# Altium schematic symbol library General Components.SchLib: 18 symbols
Pins are listed as number, name and electrical type; pins without a type are passive.

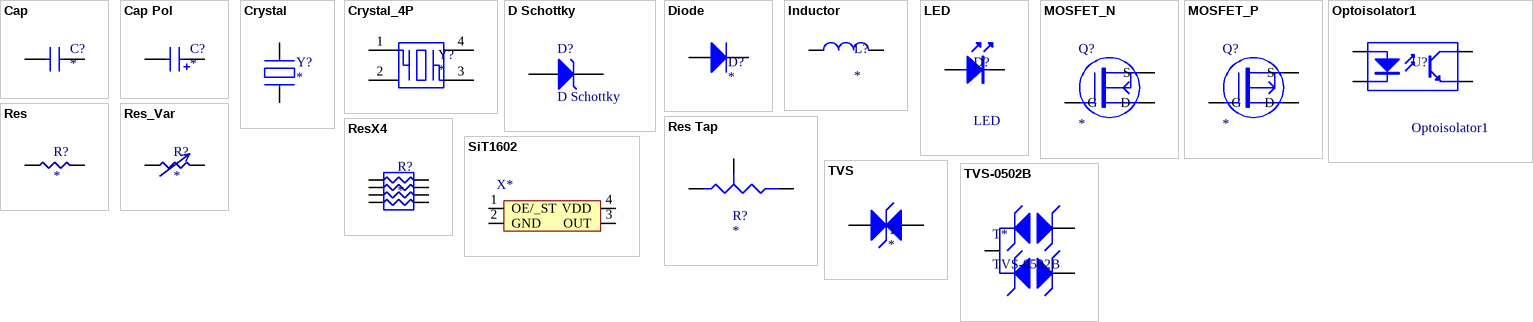
[diagram p0: symbols Cap to TVS-0502B]

## Cap
designator C?
Nonpolarized Capacitor (Surface Mount)
footprint 0603(1608)-C-IPC (Chip Capacitor, 2-Leads, Body 1.60x0.80mm, IPC Medium Density)
footprint 0805(2012)-C-IPC (Chip Capacitor, 2-Leads, Body 2.00x1.25mm, IPC Medium Density)
footprint 1206(3216)-C-IPC (Chip Capacitor, 2-Leads, Body 3.20x1.60mm, IPC Medium Density)
footprint 1210(3225)-C-IPC (Chip Capacitor, 2-Leads, Body 3.20x2.50mm, IPC Medium Density)
footprint 1812(4532)-C-IPC (Chip Capacitor, 2-Leads, Body 4.50x3.20mm, IPC Medium Density)
footprint 2225(5764)-C-IPC (Chip Capacitor, 2-Leads, Body 5.72x6.35mm, IPC Medium Density)
pins: 1, 2
2 alternate drawings of the same symbol

## Cap Pol
designator C?
Polarized Capacitor (Surface Mount)
footprint TanCap-A(3216)-C-IPC (Molded Capacitor, 2-Leads, Body 3.20x1.60mm, IPC Medium Density)
footprint TanCap-B(3528)-C-IPC (Molded Capacitor, 2-Leads, Body 3.50x2.80mm, IPC Medium Density)
footprint TanCap-C(6032)-C-IPC (Molded Capacitor, 2-Leads, Body 6.00x3.20mm, IPC Medium Density)
footprint TanCap-D(7343)-C-IPC (Molded Capacitor, 2-Leads, Body 7.30x4.30mm, IPC Medium Density)
footprint TanCap-E(7343)-C-IPC (Molded Capacitor, 2-Leads, Body 7.30x4.30mm, IPC Medium Density)
footprint CAP-Al-6.3x5.4 (Aluminium Electrolytic Capacitor, 2-Leads, Body 6.3x5.4mm, SMD)
footprint CAP-Al-10.5x10 (Aluminium Electrolytic Capacitor, 2-Leads, Body 10.5x10mm, SMD)
pins: 1, 2
2 alternate drawings of the same symbol

## Crystal
designator Y?
Passive Crystal, SMD
footprint XTAL-5032 (Passive Crystal, 2-Leads, Body 5.0x3.2mm, SMD)
footprint XTAL-2012 (Passive Crystal, 2-Leads, Body 2.0x1.2mm, SMD)
footprint XTAL-3215 (Passive Crystal, 2-Leads, Body 3.2x1.5mm, SMD)
pins: 1, 2
2 alternate drawings of the same symbol

## Crystal_4P
designator Y?
Passive Crystal, SMD
footprint XTAL-3225-4P (Passive Crystal, 4-Leads, Body 3.2x2.5mm, SMD)
pins: 1, 2, 3, 4
2 alternate drawings of the same symbol

## D Schottky
designator D?
Schottky Diode
footprint SMA-D-IPC (Molded Diode, 2-Leads, Body 4.15x2.60mm, IPC Medium Density)
footprint SMB-D-IPC (Molded Diode, 2-Leads, Body 4.31x3.62mm, IPC Medium Density)
footprint SMC-D-IPC (Molded Diode, 2-Leads, Body 6.85x5.90mm, IPC Medium Density)
footprint SOD-123-D-IPC (Molded Diode, 2-Leads, Body 2.70x1.60mm, IPC Medium Density)
footprint SOD-323-D-IPC (Molded Diode, 2-Leads, Body 1.70x1.25mm, IPC Medium Density)
pins: 1 A, 2 K

## Diode
designator D?
Generic Diode
footprint SOD-123-D-IPC (Molded Diode, 2-Leads, Body 2.70x1.60mm, IPC Medium Density)
footprint SOD-323-D-IPC (Molded Diode, 2-Leads, Body 1.70x1.25mm, IPC Medium Density)
footprint SMC-D-IPC (Molded Diode, 2-Leads, Body 6.85x5.90mm, IPC Medium Density)
footprint SMB-D-IPC (Molded Diode, 2-Leads, Body 4.31x3.62mm, IPC Medium Density)
footprint SMA-D-IPC (Molded Diode, 2-Leads, Body 4.15x2.60mm, IPC Medium Density)
pins: 1 A, 2 K

## Inductor
designator L?
Inductor
pins: 1, 2

## LED
designator D?
footprint 0603(1608)-C-IPC (Chip Capacitor, 2-Leads, Body 1.60x0.80mm, IPC Medium Density)
footprint 0805(2012)-C-IPC (Chip Capacitor, 2-Leads, Body 2.00x1.25mm, IPC Medium Density)
footprint 1206(3216)-C-IPC (Chip Capacitor, 2-Leads, Body 3.20x1.60mm, IPC Medium Density)
footprint 1812(4532)-C-IPC (Chip Capacitor, 2-Leads, Body 4.50x3.20mm, IPC Medium Density)
pins: 1 A, 2 K
2 alternate drawings of the same symbol

## MOSFET_N
designator Q?
footprint SOT23-3-IPC (SOT23, 3-Leads, Body 2.90x2.45mm, Pitch 0.95mm, IPC Medium Density)
footprint SOP-8-MOS
pins: 1 G, 2 S, 3 D
2 alternate drawings of the same symbol

## MOSFET_P
designator Q?
footprint SOT23-3-IPC (SOT23, 3-Leads, Body 2.90x2.45mm, Pitch 0.95mm, IPC Medium Density)
footprint SOP-8-MOS
pins: 1 G, 2 S, 3 D
2 alternate drawings of the same symbol

## Optoisolator1
designator U?
4-Pin Phototransistor Optocoupler
footprint SMD-4-4.65x6.6-IPC (SMD, 4-Leads, Body 4.65x6.60mm, Pitch 2.54mm, IPC Medium Density)
pins: 1 A "Anode", 2 K "Cathode", 3 E "Emitter", 4 C "Collector"

## Res
designator R?
Resistor
footprint 0603(1608)-R-IPC (Chip Resistor, 2-Leads, Body 1.60x0.82mm, IPC Medium Density)
footprint 0805(2012)-R-IPC (Chip Resistor, 2-Leads, Body 2.00x1.25mm, IPC Medium Density)
footprint 1206(3216)-R-IPC (Chip Resistor, 2-Leads, Body 3.20x1.60mm, IPC Medium Density)
footprint 2512(6432)-R-IPC (Chip Resistor, 2-Leads, Body 6.40x3.20mm, IPC Medium Density)
pins: 1, 2
2 alternate drawings of the same symbol

## Res Tap
designator R?
Tapped Resistor
pins: 1 A, 2 B, 3 TAP

## Res_Var
designator R?
Resistor
pins: 1, 2
2 alternate drawings of the same symbol

## ResX4
designator R?
Resistor
footprint LC-0603_Rx4
footprint LC-0603_Cx4
pins: 1, 2, 3, 4, 5, 6, 7, 8
2 alternate drawings of the same symbol

## SiT1602
designator X*, comment XAL  (value not drawn)
Standard Frequency Oscillator
footprint LC-SMD-3225_4P
pins: 1 OE/_ST, 2 GND, 3 OUT, 4 VDD

## TVS
designator T?
TVS
footprint 0603(1608)-R-IPC (Chip Resistor, 2-Leads, Body 1.60x0.82mm, IPC Medium Density)
footprint SOD-323-D-IPC (Molded Diode, 2-Leads, Body 1.70x1.25mm, IPC Medium Density)
pins: 1 A, 2 K

## TVS-0502B
designator T*
ESD Protection Array
footprint SOT23-3
pins: 1 (power), 2 (power), 3 (power)